# Altium schematic symbol library 2025.SchLib: 1 symbol
Pins are listed as number, name and electrical type; pins without a type are passive.

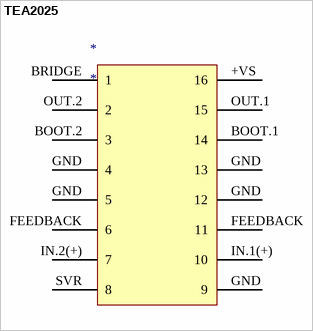
[diagram p0: symbol TEA2025]

## TEA2025
designator *
pins: +VS 16, BOOT.1 14, BOOT.2 3, BRIDGE 1, FEEDBACK 6, FEEDBACK 11, GND 4, GND 5, GND 9, GND 12, GND 13, IN.1(+) 10, IN.2(+) 7, OUT.1 15, OUT.2 2, SVR 8